# EAGLE library part 944-12-06-00 (library strasys_standard)
Stiftleiste RM 2,54mm gerade 2 x 3
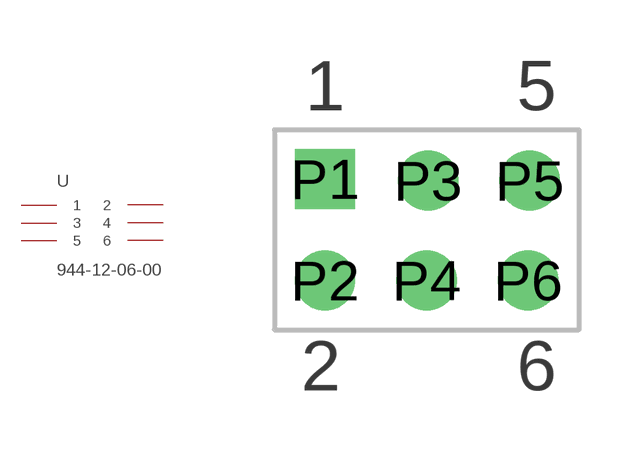
[diagram p15: symbol with the pads of 2,54_2X3; footprint 2,54_2X3]

Designator prefix -

## 944-12-06-00  [2,54_2X3]
P1  1
P2  2
P3  3
P4  4
P5  5
P6  6

## Footprint 2,54_2X3 (pad centres in mm)
drill 1 square: P1 0,0
drill 1: P2 0,-2.54; P3 2.58,-0.04; P4 2.54,-2.54; P5 5.12,-0.04; P6 5.08,-2.54